# Altium schematic symbol library LT4356-1.SchLib: 1 symbol
Pins are listed as number, name and electrical type; pins without a type are passive.

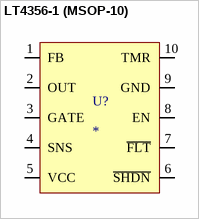
[diagram p0: symbol LT4356-1 (MSOP-10)]

## LT4356-1 (MSOP-10)
designator U?
Overvoltage Protection Regulator and Inrush Limiter; Part No.: LT4356CMS-1#PBF; Vendor: Linear Technology (Direct); Price Est.: $2.83
footprint MSOP-10 (MSOP-10 (MS-10) 3mmx3mm body (LTC Reference 05-08-1661))
pins: 1 FB, 2 OUT, 3 GATE, 4 SNS, 5 VCC, 6 ~{SHDN}, 7 ~{FLT}, 8 EN, 9 GND, 10 TMR